# Altium footprint library Library.PcbLib: 20 footprints (part 1 of 2)
Each footprint in its own frame and in the unit in brackets; x right, y up, seen from the top. Pads: shape width x height; smd on the part's side, far side on the other; paste and mask are expansions set on the pad; w line width, h text height; cw(c..) or ccw(c..) is an arc to the next point about the centre after c.
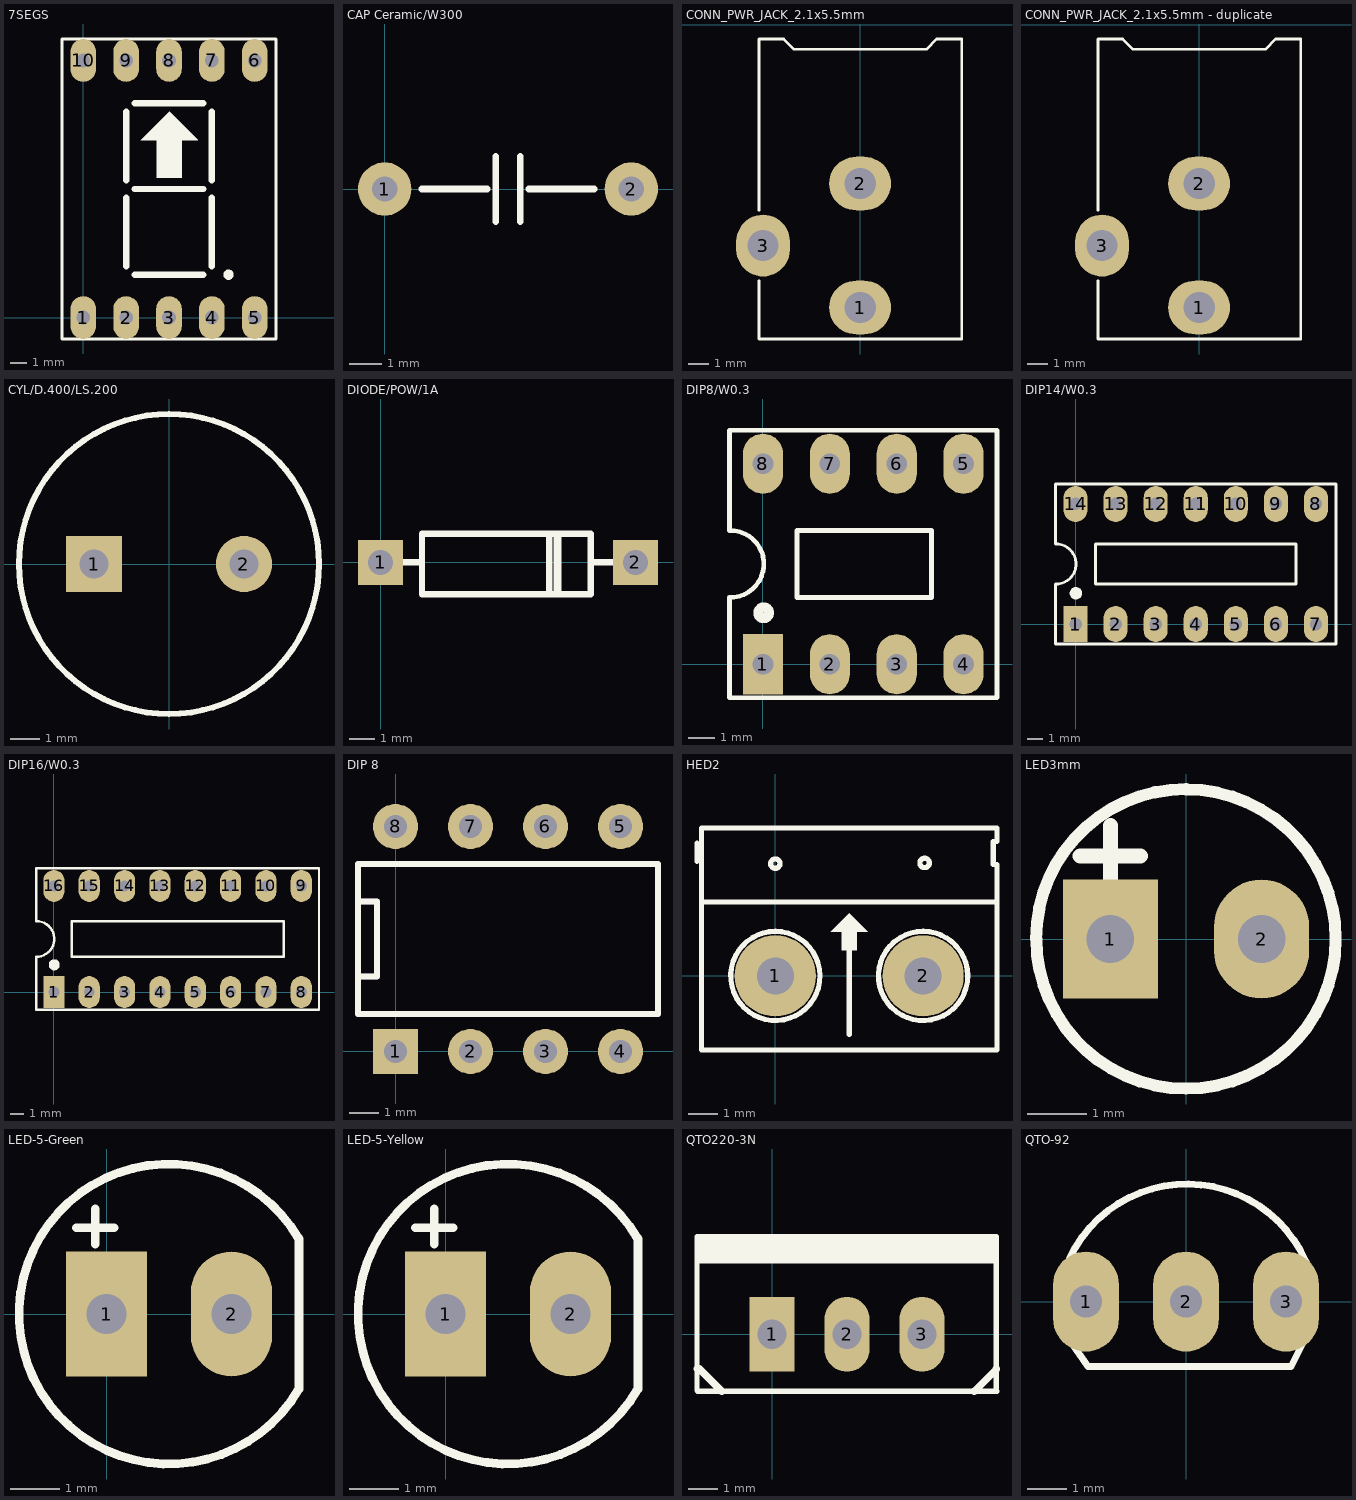
[diagram p0: the footprints below, top view; thin cyan lines are the x and y axes]

## 7SEGS [mil] "DIP 10 Leads; Body 12 x 15 mm; Pitch 0.5 mm"
height 300
pads (10):
  oval 60x100 hole 32: 1(0,0) 2(100,0) 3(200,0) 4(300,0) 5(400,0) 6(400,600) 7(300,600) 8(200,600) 9(100,600) 10(0,600)
Top Overlay:
  circle w12: c339,100 r6
  region: 134,414 200,480 202,480 267,415 267,414 230,414 230,326 171,326 171,414
  lines w7: -50,-50 450,-50 450,650 -50,650 -50,-50
  lines w15: 100,120 100,280 ; 100,120 100,280 ; 100,120 100,280 ; 100,120 100,280 ; 100,120 100,280 ; 100,120 100,280 ; 100,120 100,280 ; 100,120 100,280 ; 100,320 100,480 ; 100,320 100,480 ; 100,320 100,480 ; 100,320 100,480 ; 100,320 100,480 ; 100,320 100,480 ; 100,320 100,480 ; 100,320 100,480 ; 120,100 280,100 ; 120,100 280,100 ; 120,100 280,100 ; 120,100 280,100 ; 120,300 280,300 ; 120,300 280,300 ; 120,300 280,300 ; 120,300 280,300 ; 120,300 280,300 ; 120,300 280,300 ; 120,300 280,300 ; 120,300 280,300 ; 120,500 280,500 ; 120,500 280,500 ; 120,500 280,500 ; 120,500 280,500 ; 300,120 300,280 ; 300,120 300,280 ; 300,120 300,280 ; 300,120 300,280 ; 300,120 300,280 ; 300,120 300,280 ; 300,120 300,280 ; 300,120 300,280 ; 300,320 300,480 ; 300,320 300,480 ; 300,320 300,480 ; 300,320 300,480 ; 300,320 300,480 ; 300,320 300,480 ; 300,320 300,480 ; 300,320 300,480
3D body "SW3dPS-Disp_SA56-11.STEP": height 316.25, standoff -156.19, extent -50,-75 450,675

## CAP Ceramic/W300 [mil]
pads (2):
  round 65 hole 31: 1(0,0) 2(300,0)
Top Overlay:
  lines w8: 45,0 125,0 ; 135,-40 135,40 ; 165,-40 165,40 ; 175,0 255,0
3D body "User Library-Panasonic ECK-A3D102KBP.step": height 339.84, standoff -180, extent -7.5,-47.15 307.5,47.16

## CONN_PWR_JACK_2.1x5.5mm [mm] "Power Connector, 2.1mm ID, 5.5mm OD"
height 11
pads (3):
  oval 3x2.6 hole 1.511: 1(0,-13.7) 2(0,-7.7)
  oval 2.6x3 hole 1.511: 3(-4.7,-10.7)
Top Overlay:
  lines w0.127: -4.9,-12.4 -4.9,-15.225 4.925,-15.225 4.925,-0.7 3.7,-0.7 3.2,-1.2 -3.2,-1.2 -3.7,-0.7 -4.9,-0.7 -4.9,-9
Mechanical 13:
  lines w0.076: -4.9,-12.4 -4.9,-15.225 4.925,-15.225 4.925,-0.7 3.7,-0.7 3.2,-1.2 -3.2,-1.2 -3.7,-0.7 -4.9,-0.7 -4.9,-9
3D body "3100-522 Connector.stp": height 11, standoff -3.5, extent -4.9,-14.1 4.5,0

## CONN_PWR_JACK_2.1x5.5mm - duplicate [mm] "Power Connector, 2.1mm ID, 5.5mm OD"
height 11
pads (3):
  oval 3x2.6 hole 1.511: 1(0,-13.7) 2(0,-7.7)
  oval 2.6x3 hole 1.511: 3(-4.7,-10.7)
Top Overlay:
  lines w0.127: -4.9,-12.4 -4.9,-15.225 4.925,-15.225 4.925,-0.7 3.7,-0.7 3.2,-1.2 -3.2,-1.2 -3.7,-0.7 -4.9,-0.7 -4.9,-9
Mechanical 13:
  lines w0.076: -4.9,-12.4 -4.9,-15.225 4.925,-15.225 4.925,-0.7 3.7,-0.7 3.2,-1.2 -3.2,-1.2 -3.7,-0.7 -4.9,-0.7 -4.9,-9
3D body "3100-522 Connector.stp": height 11, standoff -3.5, extent -4.9,-14.1 4.5,0

## CYL/D.400/LS.200 [mil]
pads (2):
  rect 75x75 hole 39: 1(-100,0)
  round 75 hole 39: 2(100,0)
Top Overlay:
  lines w8: -200,0 cw(c0,0) 0,200 cw(c0,0) 200,0 cw(c0,0) 0,-200 cw(c0,0) -200,0
3D body "User Library-CE_R200_D400_H500.step": height 500, standoff -106.3, extent -198.38,-199.3 200,199.32

## DIODE/POW/1A [mm]
pads (2):
  rect 1.8x1.8 hole 1: 1(0,0) 2(10.16,0)
Top Overlay:
  lines w0.2: 6.985,-1.27 6.985,1.143 ; 7.112,-1.27 7.112,1.143
  lines w0.254: 0.635,0 1.651,0 ; 6.731,-1.27 6.731,1.143 ; 8.382,0 9.525,0 ; 1.651,-1.27 1.651,1.143 8.382,1.143 8.382,-1.27 1.651,-1.27
3D body "SW3DPS-DIODE0_4.step": height 2.55, standoff -2.54, extent -0.381,-1.283 10.541,1.283

## DIP8/W0.3 [mil] "8 PIN, W 300mil, Pin to pin 100mil"
height 100
pads (8):
  rect 60x90 hole 31: 1(0,0)
  oval 60x90 hole 31: 2(100,0) 3(200,0) 4(300,0) 5(300,300) 6(200,300) 7(100,300) 8(0,300)
Top Overlay:
  circle w15: c1,77 r8
  lines w7: -50.38,100.05 ccw(c-48.69,150.02) -50,200 ; -50,100 -50,-50 350,-50 350,350 -50,350 -50,201 ; 51,100 252,100 252,200 51,200 51,100
3D body "SW3dPS-DIP8-CER.STEP": height 201.25, standoff -129.47, extent -50,-40 350,336.4

## DIP14/W0.3 [mil] "14PIN, W 300mil, Pin to pin 100mil"
height 100
pads (14):
  rect 60x90 hole 31: 1(0,0)
  oval 60x90 hole 31: 2(100,0) 3(200,0) 4(300,0) 5(400,0) 6(500,0) 7(600,0) 8(600,300) 9(500,300) 10(400,300) 11(300,300) 12(200,300) 13(100,300) 14(0,300)
Top Overlay:
  circle w15: c1,77 r8
  lines w7: -50.38,100.05 ccw(c-48.69,150.02) -50,200 ; -50,100 -50,-50 650,-50 650,350 -50,350 -50,201 ; 50,100 550,100 550,200 50,200 50,100
3D body "SW3DPS-DIP-14-DEFAULT.STEP": height 145.48, standoff -129.32, extent -69.99,-12.47 680.01,302.49

## DIP16/W0.3 [mil] "16 PIN, W 300mil, Pin to pin 100mil"
height 100
pads (16):
  rect 60x90 hole 31: 1(0,0)
  oval 60x90 hole 31: 2(100,0) 3(200,0) 4(300,0) 5(400,0) 6(500,0) 7(600,0) 8(700,0) 9(700,300) 10(600,300) 11(500,300) 12(400,300) 13(300,300) 14(200,300) 15(100,300) 16(0,300)
Top Overlay:
  circle w15: c1,77 r8
  lines w7: -50.38,100.05 ccw(c-48.69,150.02) -50,200 ; -50,100 -50,-50 750,-50 750,350 -49,350 -50,349 ; -50,201 -50,350 ; 50,100 650,100 650,200 50,200 50,100
3D body "SW3dPS-DIP 16 _ socket 214.STEP": height 299.42, standoff -131.12, extent -51.7,-57.39 751.7,356

## DIP 8 [mil] "DIP IC (2.54mm), 8 pins"
pads (8):
  rect 60x60 / inner round 60 / far side rect 60x80 hole 31: 1(0,0)
  round 60 / inner round 60 / far side oval 60x80 hole 31: 2(100,0) 3(200,0) 4(300,0) 5(300,300) 6(200,300) 7(100,300) 8(0,300)
Top Overlay:
  lines w8: -50,100 -25,100 -25,200 -50,200 ; -50,50 350,50 350,250 -50,250 -50,50
Mechanical 1:
  lines w8: -50,100 -25,100 -25,200 -50,200 ; -50,50 350,50 350,250 -50,250 -50,50
3D body "User Library-PDIP-8.step": height 200.79, standoff -125.2, extent -46.85,-15.2 346.85,310

## HED2 [mil] "Header 2, 2 pin, hight 300mil, Pin to Pin 200, Colour Green"
height 300
pads (2):
  round 110 hole 50: 1(0,0) 2(200,0)
Top Overlay:
  circle w7: c202,153 r6.4
  circle w7: c0,152 r6.4
  region: 100,85 75,60 90,60 90,35 110,35 110,60 125,60
  lines w7: -106,155 -106,180 ; -98,100 299,100 ; 38.83,46.23 ccw(c0,0) 40.11,45.12 ; 100,-79 100,72 ; 238.74,46.3 ccw(c200,0) 240.11,45.12 ; -100,-100 -100,50 -100,200 300,200 300,182 295,182 295,151 300,151 300,-100 -100,-100
3D body "SW3dPS-KRM2.STEP": height 393.7, standoff -157.48, extent -91.85,-90 301.85,205.28

## LED3mm [mm]
pads (2):
  rect 1.6x2 hole 0.8: 1(-1.27,0)
  oval 1.6x2 hole 0.8: 2(1.27,0)
Top Overlay:
  lines w0.203: -2.521,0 cw(c0,0) 0,2.521 ; -2.514,0 ccw(c0,0) 0,-2.514 ccw(c0,0) 2.514,0 ccw(c0,0) 0,2.514
  lines w0.254: -1.778,1.397 -0.762,1.397 ; -1.27,0.889 -1.27,1.905
3D body "SW3DPS-REDLED-DIP.step": height 5.38, standoff -3.17, extent -1.992,-1.499 1.992,1.994

## LED-5-Green [mil] "LED 2 PIN, 5 ly , Only colour,pin to pin 100mil"
height 300
pads (2):
  rect 65x100 hole 32: 1(0,0)
  oval 65x100 hole 32: 2(100,0)
Top Overlay:
  lines w7: -24,69 6,69 ; -9,56 -9,84 ; 153.51,60.71 ccw(c50,0) 153.94,-59.97 ; 154,-59 154,60
3D body "SW3dPS-LEDd5G.STEP": height 339.18, standoff -243.49, extent -68.69,-119.99 144.69,117

## LED-5-Yellow [mil] "LED 2 PIN, 5 ly , Only colour,pin to pin 100mil"
height 300
pads (2):
  rect 65x100 hole 32: 1(0,0)
  oval 65x100 hole 32: 2(100,0)
Top Overlay:
  lines w7: -24,69 6,69 ; -9,56 -9,84 ; 153.51,60.71 ccw(c50,0) 153.94,-59.97 ; 154,-59 154,60
3D body "SW3dPS-LEDd5O.STEP": height 339.18, standoff -243.49, extent -66.69,-121.99 146.69,115

## QTO220-3N [mil]
pads (3):
  rect 60x100 hole 39: 1(0,0)
  oval 60x100 hole 39: 2(100,0) 3(200,0)
Top Overlay:
  rectangle: -99,94 300,130
  lines w7: 298,107 299,93 ; -100,-75 -99,-76 -76,-76 300,-76 299,-75 299,130 -100,130 -100,-75
  lines w10: -100,-46 -97,-46 -67,-76 ; 270,-76 299,-47 299,-46
3D body "SW3dPS-TO220AB.STEP": height 904.72, standoff -250, extent -119,-64 322.46,120.65

## QTO-92 [mil] "TO-92"
height 200
pads (3):
  oval 66x100 hole 32: 1(-100,0) 2(0,0) 3(100,0)
Top Overlay:
  lines w7: -116.52,43.21 cw(c0.97,-12.43) 119.94,39.97 ; -115.34,-40.24 -98,-65 105,-65 118,-39
3D body "SW3dPS-TO92.STEP": height 245.04, standoff -199.79, extent -108.87,-65.56 108.86,95